# Altium footprint library My Library.PcbLib: 161 footprints (part 7 of 11)
Each footprint in its own frame and in the unit in brackets; x right, y up, seen from the top. Pads: shape width x height; smd on the part's side, far side on the other; paste and mask are expansions set on the pad; w line width, h text height; cw(c..) or ccw(c..) is an arc to the next point about the centre after c.
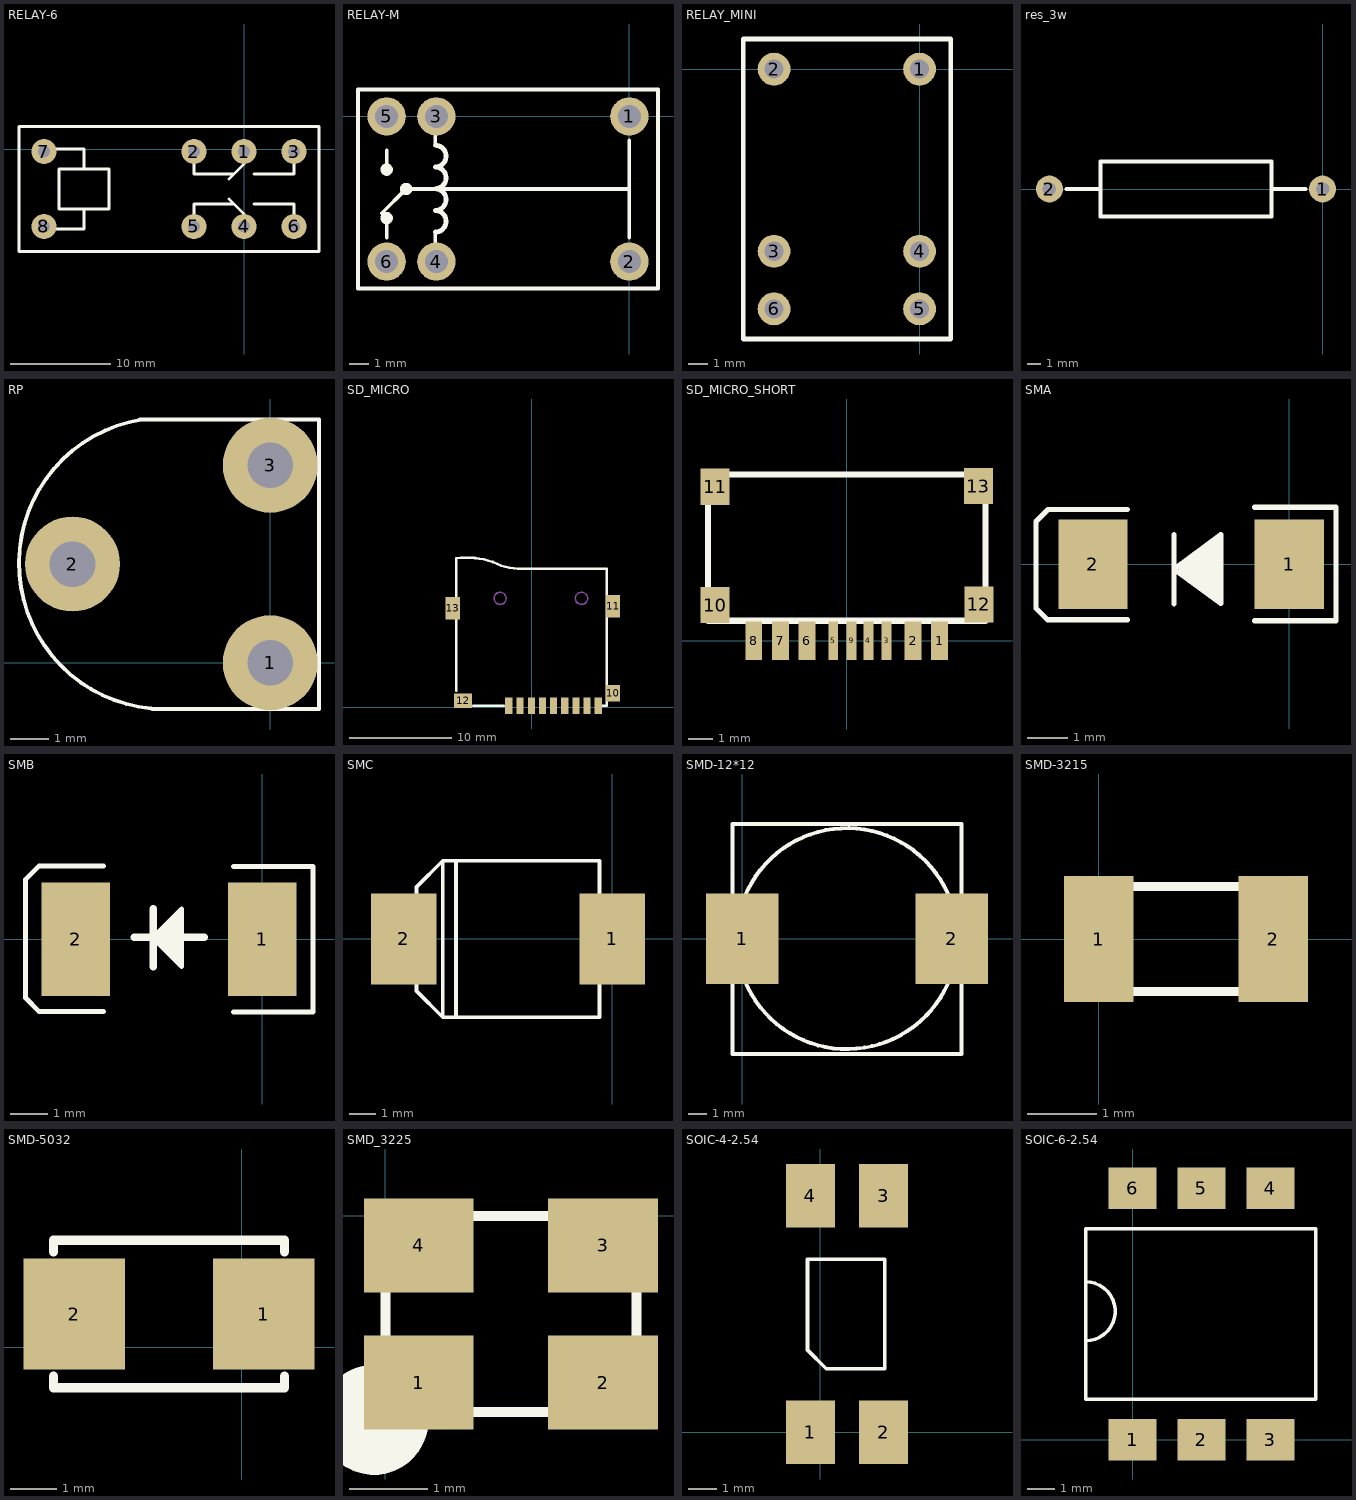
[diagram p6: the footprints below, top view; thin cyan lines are the x and y axes]

## RELAY-6 [mm]
height 20
pads (8):
  round 2.5 hole 1.2: 1(0,-0.25) 2(-5,-0.25) 3(5,-0.25) 4(0,-7.75) 5(-5,-7.75) 6(5,-7.75) 7(-20,-0.25) 8(-20,-7.75)
Top Overlay:
  circle w0.254: c-5,0 r0.8
  circle w0.254: c-5,-8 r0.8
  circle w0.254: c0,-8 r0.8
  circle w0.254: c0,0 r0.8
  circle w0.254: c5,0 r0.8
  circle w0.254: c5,-8 r0.8
  lines w0.254: -19.3,-8 -16,-8 -16,-6 ; -19.3,0 -16,0 -16,-2 ; -5,-7.2 -5,-5.5 -1,-5.5 ; -5,-0.8 -5,-2.5 -1,-2.5 ; -1.5,-5 0,-6.5 0,-7.2 ; -1.5,-3 0,-1.5 0,-0.8 ; 1,-5.5 5,-5.5 5,-7.2 ; 1,-2.5 5,-2.5 5,-0.8 ; -22.5,-10.25 -22.5,2.25 7.5,2.25 7.5,-10.25 -22.5,-10.25 ; -18.5,-6 -18.5,-2 -13.5,-2 -13.5,-6 -18.5,-6
3D body: height 20, standoff 0, extent -22.5,-10.25 7.5,2.25

## RELAY-M [mm]
height 10
pads (6):
  round 2 hole 1.2: 1(0,0) 2(0,-7.6) 3(-10.1,0) 4(-10.1,-7.6) 5(-12.7,0) 6(-12.7,-7.6)
Top Overlay:
  circle w0.254: c-12.7,-5.324 r0.199
  circle w0.254: c-12.7,-2.784 r0.199
  circle w0.254: c-11.684,-3.8 r0.199
  lines w0.2: -12.954,-5.07 -11.684,-3.8 -11.176,-3.8 0,-3.8 ; -12.7,-6.34 -12.7,-5.324 ; -12.7,-2.784 -12.7,-1.768 ; -10.16,-6.594 -10.16,-6.058 ; -10.16,-1.514 -10.16,-1.006 ; 0,-6.34 0,-1.26
  lines w0.203: -14.2,-9 1.5,-9 1.5,1.4 -14.2,1.4 -14.2,-9
  lines w0.254: -10.16,-6.058 ccw(c-10.16,-5.49) -10.16,-4.922 ccw(c-10.16,-4.354) -10.16,-3.786 ccw(c-10.16,-3.218) -10.16,-2.65 ccw(c-10.16,-2.082) -10.16,-1.514

## RELAY_MINI [mm]
height 10
pads (6):
  round 1.7 hole 1: 1(0,0) 2(-7.54,0) 3(-7.54,-9.44) 4(0,-9.44) 5(0,-12.43) 6(-7.54,-12.43)
Top Overlay:
  lines w0.254: -9.14,-13.99 -9.14,1.56 1.62,1.56 1.62,-13.99 -9.14,-13.99
3D body: height 11.34, standoff 10.25, extent -9.26,-14.04 1.66,1.56
3D body: height 10.25, standoff 0, extent -9.26,-14.04 1.66,1.56

## res_3w [mm]
pads (2):
  round 2 hole 1: 1(0,0) 2(-20.32,0)
Top Overlay:
  lines w0.305: -19.05,0 -16.51,0 ; -3.81,0 -1.27,0 ; -16.51,-2.032 -16.51,2.032 -3.81,2.032 -3.81,-2.032 -16.51,-2.032

## RP [mm]
height 7
pads (3):
  round 2.5 hole 1.2: 1(0,0) 2(-5.207,2.6) 3(0,5.2)
Top Overlay:
  lines w0.1: -3.436,6.407 1.284,6.407 1.284,-1.219 -3.108,-1.219 ; -3.39,6.404 ccw(c-2.78,2.618) -3.133,-1.201

## SD_MICRO [mm]
height 1.5
pads (13):
  rect 0.7x1.6 smd: 1(-2.25,0.127) 2(-1.151,0.127) 3(0,0.127) 4(1.049,0.127) 5(2.149,0.127) 6(3.251,0.127) 7(4.351,0.127) 8(5.451,0.127) 9(6.551,0.127)
  rect 1.4x1.6 smd: 10(8.001,1.377)
  rect 1.4x2.2 smd: 11(8.001,9.926) 13(-7.75,9.728)
  rect 1.8x1.4 smd: 12(-6.749,0.627)
Top Overlay:
  lines w0.254: -7.399,1.628 -7.399,14.628 cw(c-6.325,7.274) -2.997,13.919 ccw(c-0.798,21.211) -0.099,13.627 7.399,13.627 7.399,0.127 7,0.127 ; -7.399,9.726 -7.399,14.127 ; -5.751,0.127 -2.751,0.127
Mechanical 1:
  circle w0.127: c4.9,10.7 r0.6
  circle w0.127: c-3.1,10.7 r0.6
3D body: height 1.5, standoff 0, extent -7.45,0.075 7.4,14.6

## SD_MICRO_SHORT [mm]
height 1.5
pads (13):
  rect 0.7x1.6 smd: 1(3.85,0) 2(2.75,0) 6(-1.65,0) 7(-2.75,0) 8(-3.85,0)
  rect 0.4x1.6 smd: 3(1.65,0) 4(0.9,0) 5(-0.55,0) 9(0.2,0)
  rect 1.2x1.5 smd: 10(-5.45,1.475) 11(-5.45,6.375) 12(5.475,1.5) 13(5.45,6.4)
Top Overlay:
  lines w0.254: -5.75,0.825 0,0.825 5.75,0.825 5.75,6.8 5.675,6.875 -5.7,6.875 -5.75,6.825 -5.75,0.85

## SMA [mm]
height 3
pads (2):
  rect 1.7x2.2 smd: 1(0,0) 2(-4.82,0)
Top Overlay:
  region: -2.354,0.148 -2.329,0.123 -2.329,-0.427 -2.404,-0.427 -2.754,-0.077 -2.504,0.173 -2.379,0.173 -2.379,-0.102
  region: -1.879,0.573 -1.904,0.548 -1.904,-0.802 -2.004,-0.802 -2.404,-0.402 -2.404,0.198 -2.279,0.248 -1.904,0.573 -1.904,-0.202 -1.879,-0.227
  region: -1.729,0.698 -1.729,-0.877 -1.804,-0.802 -1.904,-0.802 -1.904,0.498 -1.704,0.698
  lines w0.127: -3.972,-1.36 -5.935,-1.36 -6.217,-1.078 -6.217,1.053 -5.922,1.348 -3.972,1.348 ; -2.832,-0.97 -2.832,0.73 ; -2.832,-0.12 -1.682,0.73 -1.682,-0.96 -2.822,-0.12 ; -0.852,-1.385 1.138,-1.385 1.146,-1.377 1.146,1.4 -0.852,1.4
3D body: height 2, standoff 0, extent -4.825,-1.2 0,1.2

## SMB [mm]
height 2
pads (2):
  rect 1.8x3 smd: 1(0,0) 2(-4.92,0)
Top Overlay:
  rectangle: -2.75,0.05 -2.125,0.225
  rectangle: -2.267,0.2 -2.125,0.658
  rectangle: -2.75,-0.15 -2.125,0.05
  rectangle: -2.356,0.2 -2.267,0.569
  rectangle: -2.626,-0.224 -2.125,-0.1
  rectangle: -2.555,-0.295 -2.125,-0.224
  rectangle: -2.482,-0.368 -2.125,-0.275
  rectangle: -2.413,-0.487 -2.125,-0.368
  rectangle: -2.344,-0.575 -2.125,-0.487
  lines w0.127: -4.19,-1.91 -5.89,-1.91 -6.248,-1.552 -6.248,1.577 -5.895,1.93 -4.19,1.93 ; -2.364,0.161 -2.364,0.445 -2.267,0.349 -2.267,0.2 ; -0.76,-1.92 1.34,-1.92 1.34,1.918 -0.76,1.918 ; -2.875,0.025 -2.125,-0.725 -2.125,0.8 -2.875,0.05 -2.875,0.025
  lines w0.2: -3.375,0.05 -1.525,0.05 ; -2.875,-0.725 -2.875,0.8
  lines w0.3: -2.512,0.285 -2.364,0.136
3D body: height 2, standoff 0, extent -4.925,-1.6 0.025,1.6

## SMC [mm]
height 2
pads (2):
  rect 2.5x3.5 smd: 1(0,0) 2(-8,0)
Top Overlay:
  lines w0.15: -6,-3 -6,3 ; -6.5,-3 -0.5,-3 -0.5,3 -6.5,3 ; -6.5,-3 -7.5,-2 -7.5,2 -6.5,3 ; -6.5,-3 -6.5,3

## SMD-12*12 [mm]
height 7.5
pads (2):
  rect 4x5 smd: 1(0,0) 2(11.562,0.006)
Top Overlay:
  circle w0.22: c5.777,0.006 r6.1
  lines w0.22: -0.553,-6.364 -0.553,6.336 12.097,6.336 12.097,-6.364 -0.553,-6.364
3D body: height 7.5, standoff 0.5, extent -0.55,-6.325 12.1,6.325

## SMD-3215 [mm]
height 1
pads (2):
  rect 1x1.8 smd: 1(0,0) 2(2.5,0)
Top Overlay:
  lines w0.127: -0.35,-0.75 -0.35,0.75 2.85,0.75 2.85,-0.75 -0.35,-0.75

## SMD-5032 [mm]
height 1
pads (2):
  rect 2.2x2.4 smd: 1(0.475,0.725) 2(-3.625,0.725)
Top Overlay:
  lines w0.2: -4.075,-0.625 -4.075,-0.875 0.925,-0.875 0.925,-0.625 ; -4.075,2.075 -4.075,2.325 0.925,2.325 0.925,2.075
3D body: height 1, standoff 0, extent -4.075,-0.85 0.925,2.3

## SMD_3225 [mm]
height 1
pads (4):
  rect 1.4x1.2 smd: 1(0.425,-2.125) 2(2.775,-2.125) 3(2.775,-0.375) 4(0.425,-0.375)
Top Overlay:
  circle w1: c-0.15,-2.6 r0.2
  lines w0.127: 3.2,-2.5 0,-2.5 0,0 3.2,0 3.2,-2.5 ; 3.2,-2.5 3.2,-2.5

## SOIC-4-2.54 [mm]
height 2.54
pads (4):
  rect 1.7x2.2 smd: 1(-0.35,0) 2(2.19,0) 3(2.19,8.2) 4(-0.35,8.2)
Top Overlay:
  lines w0.127: -0.45,2.85 -0.45,6 2.225,6 2.225,2.2 0.2,2.2 -0.45,2.85
3D body: height 3.5, standoff 0, extent -1.05,0.7 2.85,7.475

## SOIC-6-2.54 [mm]
height 5
pads (6):
  rect 1.78x1.52 smd: 1(0,0) 2(2.54,0) 3(5.08,0) 4(5.08,9.27) 5(2.54,9.27) 6(0,9.27)
Top Overlay:
  lines w0.127: -1.725,5.821 cw(c-1.725,4.735) -1.725,3.65 ; -1.725,1.5 6.75,1.5 6.75,7.775 -1.725,7.775 -1.725,1.5
3D body: height 4, standoff 0, extent -1.725,0.875 6.75,8.375